# Altium schematic symbol library JTAG_to_HDMI.SchLib: 4 symbols
Pins are listed as number, name and electrical type; pins without a type are passive.

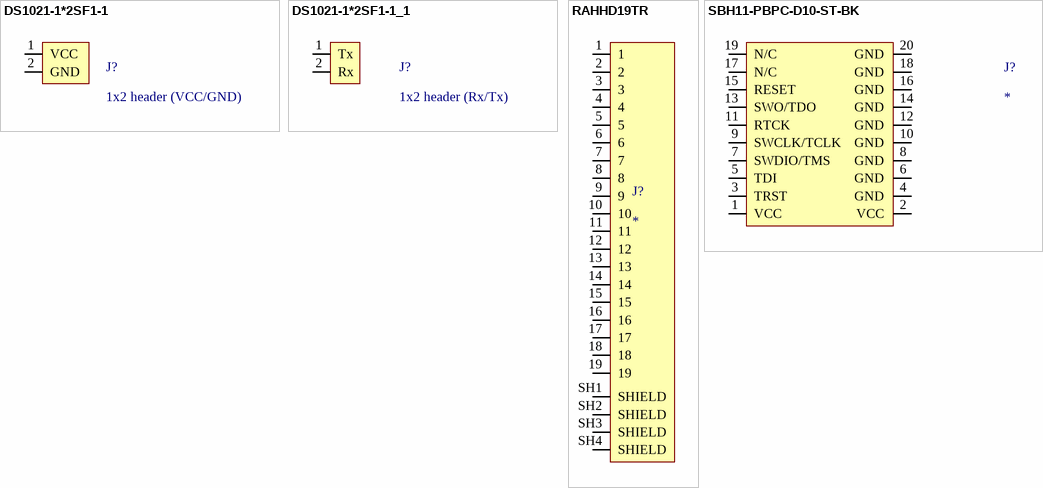
[diagram p0: symbols DS1021-1*2SF1-1 to SBH11-PBPC-D10-ST-BK]

## DS1021-1*2SF1-1
designator J?, comment 1x2 header (VCC/GND)
Manufacturer: Ningbo Connfly Electric; Manufacturer Part Number: DS1021-1*2SF1-1; Supplier: Conrad; Supplier Part Number: 1390105; RoHS: No; Pricing: 1=0,11 (EUR); ComponentLink1Description: Chipdip link; ComponentLink1URL: https://www.chipdip.ru/product0/8009330828; Supplier 1: https://www.chipdip.ru/product0/8009330828
footprint DS1021-1*2SF1-1
pins: 1 VCC, 2 GND

## DS1021-1*2SF1-1_1
designator J?, comment 1x2 header (Rx/Tx)
Manufacturer: Ningbo Connfly Electric; Manufacturer Part Number: DS1021-1*2SF1-1; Supplier: Conrad; Supplier Part Number: 1390105; RoHS: No; Pricing: 1=0,11 (EUR); ComponentLink1Description: Chipdip link; ComponentLink1URL: https://www.chipdip.ru/product0/8009330828; Supplier 1: https://www.chipdip.ru/product0/8009330828
footprint DS1021-1*2SF1-1
pins: 1 Tx, 2 Rx

## RAHHD19TR
designator J?
HDMI HDMI 2.0 Receptacle Connector 19 Position Surface Mount, Right Angle; Through Hole; MF: Switchcraft Inc.; MP: RAHHD19TR; Package: None; Price: None; Check_prices: https://www.snapeda.com/parts/RAHHD19TR/Switchcraft+%252F+Conxall/view-part/?ref=eda; Value: *; SnapEDA_Link: https://www.snapeda.com/parts/RAHHD19TR/Switchcraft+%252F+Conxall/view-part/?ref=snap; Availability: In Stock; Purchase-URL: https://pricing.snapeda.com/search/part/RAHHD19TR/?ref=eda; ComponentLink1Description: Chipdip link; ComponentLink1URL: https://www.chipdip.ru/product0/8007174530; Supplier 1: https://www.chipdip.ru/product0/8007174530
footprint SWITCHCRAFT_RAHHD19TR
pins: 1, 2, 3, 4, 5, 6, 7, 8, 9, 10, 11, 12, 13, 14, 15, 16, 17, 18, 19, SH1 SHIELD, SH2 SHIELD, SH3 SHIELD, SH4 SHIELD

## SBH11-PBPC-D10-ST-BK
designator J?
Conn Shrouded Header (4 Sides) HDR 20 POS 2.54mm Solder ST Top Entry Thru-Hole; Manufacturer: Sullins; Manufacturer Part Number: SBH11-PBPC-D10-ST-BK; Supplier: Digikey; Supplier Part Number: S9172-ND; RoHS: Yes; Category: Connectors; Stock: 20189; Pricing: 1=0,65, 10=0,496, 80=0,38963, 440=0,32211, 945=0,29663, 4900=0,25024, 10000=0,2457 (USD); ComponentLink1URL: https://datasheet.ciiva.com/730/sbh11-pbpc-dxx-st-xx-730919.pdf?src-supplier=Digikey; ComponentLink1Description: https://datasheet.ciiva.com/730/sbh11-pbpc-dxx-st-xx-730919.pdf?src-supplier=Digikey; ComponentLink2Description: Chipdip link; ComponentLink2URL: https://www.chipdip.ru/product0/8005812384; Supplier 1: https://www.chipdip.ru/product0/8005812384
footprint SBH11-PBPC-D10-ST-BK
pins: 1 VCC, 2 VCC, 3 TRST, 4 GND, 5 TDI, 6 GND, 7 SWDIO/TMS, 8 GND, 9 SWCLK/TCLK, 10 GND, 11 RTCK, 12 GND, 13 SWO/TDO, 14 GND, 15 RESET, 16 GND, 17 N/C, 18 GND, 19 N/C, 20 GND